# EAGLE library part SN74LVCG (library LARS_409_MC)
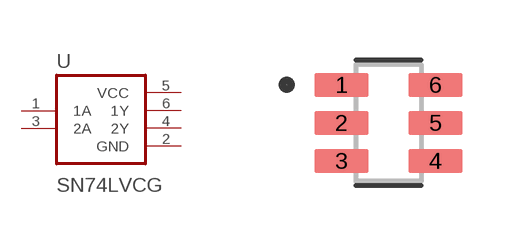
[diagram p9: symbol with the pads of SOT23-6; footprint SOT23-6]

Designator prefix -

## SN74LVCG  [SOT23-6]
1  1A  in
2  GND  pwr
3  2A  in
4  2Y  out
5  VCC  pwr
6  1Y  out

## Footprint SOT23-6 (pad centres in mm)
smd 1.36 x 0.6: 1 -1.175,0.95; 2 -1.175,0; 3 -1.175,-0.95; 4 1.175,-0.95; 5 1.175,0; 6 1.175,0.95